# Altium schematic symbol library kmilo17pet-LT_ChargePump.SchLib: 599 symbols (part 13 of 29)
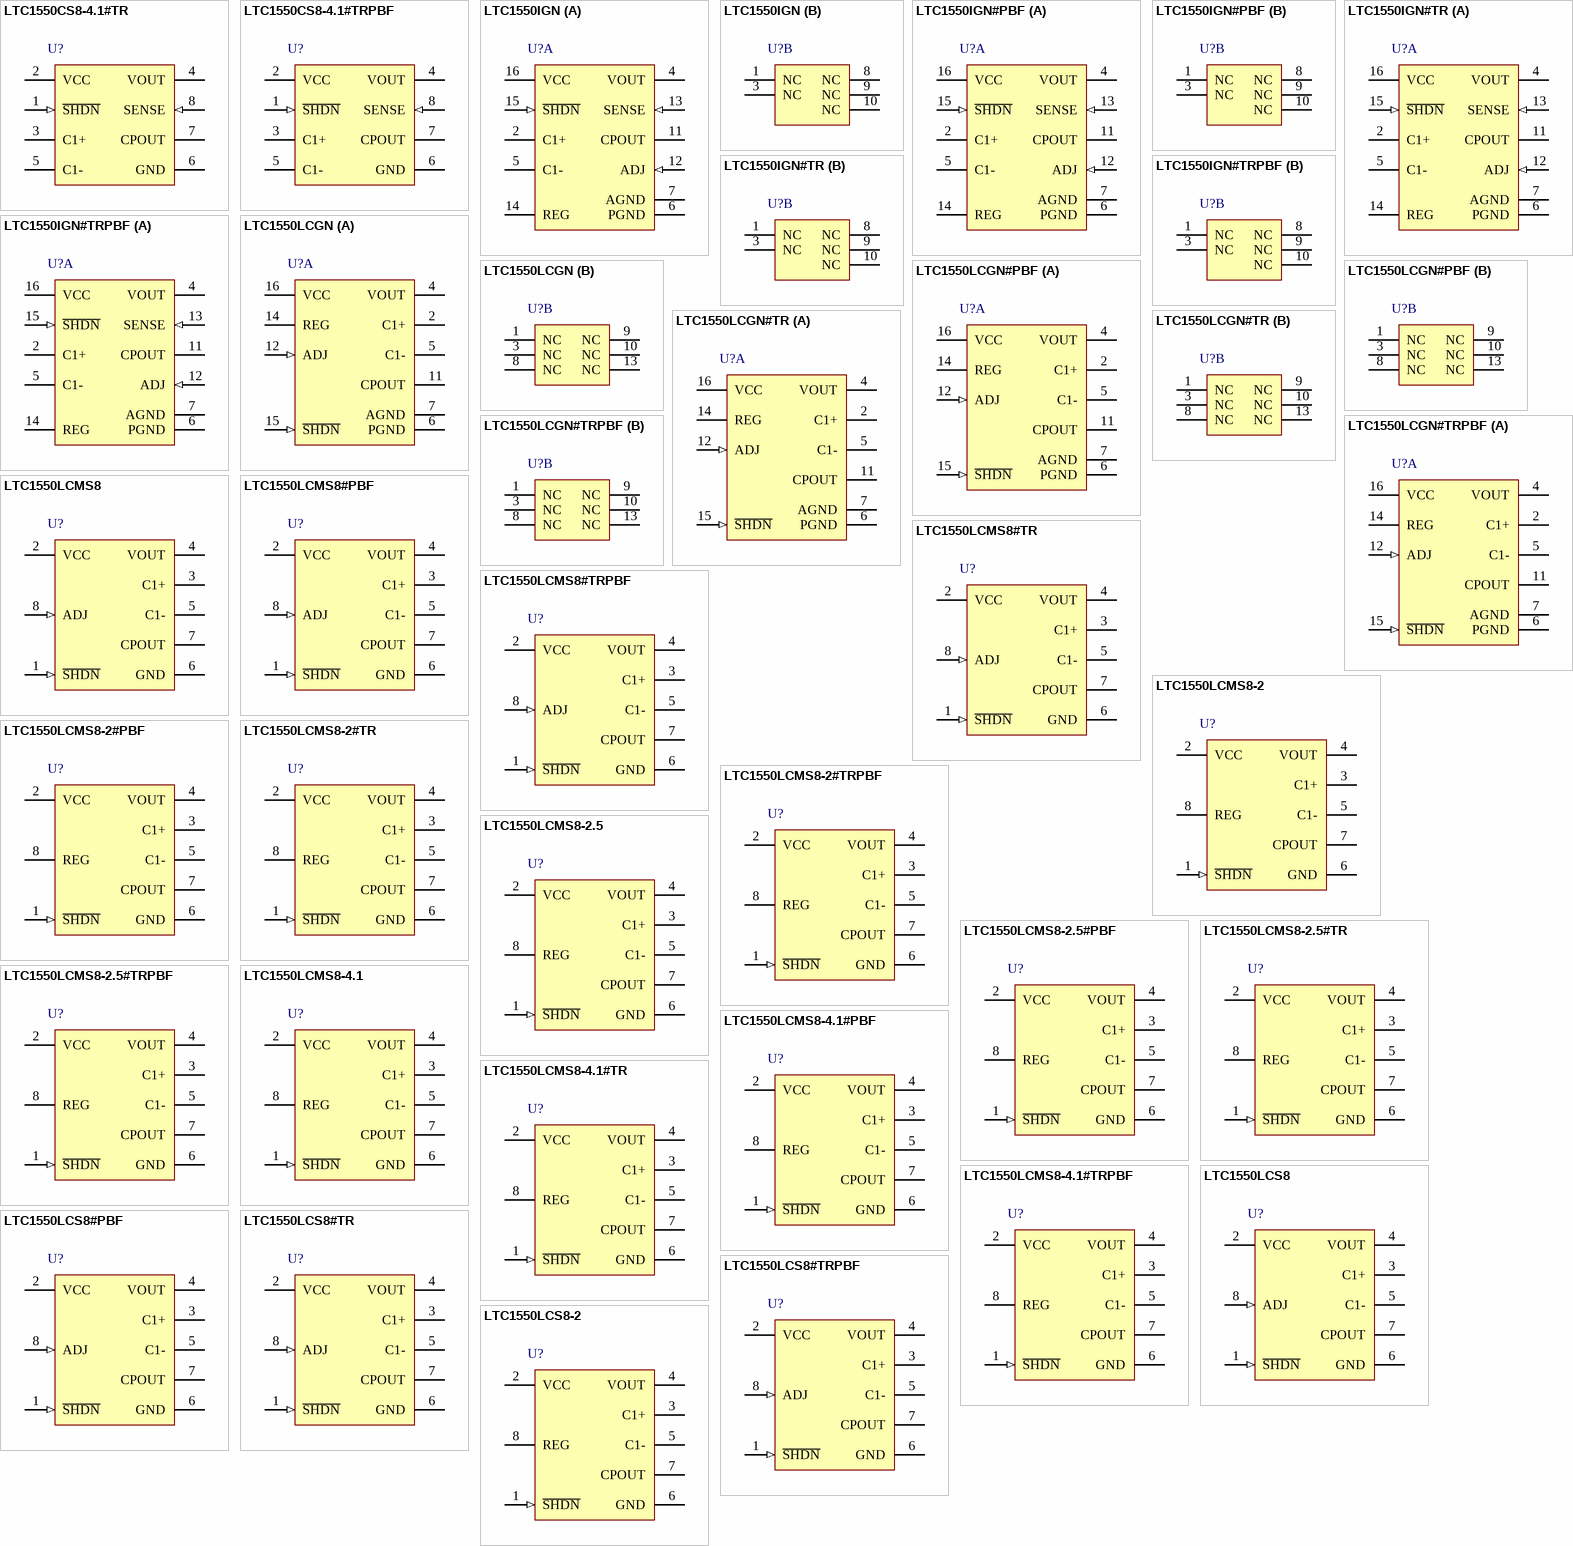
[diagram p28: symbols LTC1550CS8-4.1#TR to LTC1550LCS8-2]

## LTC1550LCMS8-4.1
designator U?
Low Noise, Switched Capacitor Regulated Voltage Inverter, 4.5 to 5.25 V Vin, -4.1 V Vout, 8-pin SOP (MS8-8), 0 to 70 degC; Manufacturer: Linear Technology; PartNumber: LTC1550LCMS8-4.1; Frequency(kHz): 900; Ishutdown(uA): 0.1; Isupply(mA): 3.65; Max Iout(mA): 20; Vin Max(V): 5.25; Vin Min(V): 4.5; Voutput: -4.1V; PackageVersion: Rev. G, 03/2012; PackageReference: MS8-8; PackageDescription: 8-Pin Plastic MSOP, Body 3 x 3 mm, Pitch 0.65 mm; Supplier 1: Digi-Key; Supplier Part Number 1: LTC1550LCMS8-4.1-ND; RoHS: FALSE; Mounting Technology: Surface Mount; ComponentLink1Description: Manufacturer URL; ComponentLink1URL: http://www.linear.com/; ComponentLink2Description: Datasheet; ComponentLink2URL: http://cds.linear.com/docs/en/datasheet/15501lf.pdf; ComponentLink3Description: Package Specification; ComponentLink3URL: http://cds.linear.com/docs/en/packaging/05081660_G_MS8.pdf
footprint LT-MS8-8_N (SOP, 8-Leads, Body 3.1x3.1mm, Pitch 0.65mm, IPC Medium Density)
footprint LT-MS8-8_L (SOP, 8-Leads, Body 3.1x3.1mm, Pitch 0.65mm, IPC High Density)
footprint LT-MS8-8_M (SOP, 8-Leads, Body 3.1x3.1mm, Pitch 0.65mm, IPC Low Density)
pins: 1 ~{SHDN} (in) "Shutdown (TTL Compatible). This pin is active low (S\H\D\N\) for the LTC1550L and active high (SHDN) for the LTC1551L. When this pin is at VCC (GND for LTC1551L), the LTC1550L operates normally. When S\H\D\N\ is pulled low (See Datasheet)", 2 VCC (power) "Power Supply. VCC requires an input voltage between 2.7V and 5.25V. Certain combinations of output voltage and output load current may place additional restrictions on the required input voltage. Consult the Electrical (See Datasheet)", 3 C1+ "C1 Positive Input. Connect a 0.1uF capacitor between C1+ and C1-.", 4 VOUT (power) "Negative Voltage Output. This pin must be bypassed with a 4.7uF or larger capacitor to ensure regulator loop stability. LTC recommends at least 10uFto achieve the specified output ripple. The output capacitor should be a (See Datasheet)", 5 C1- "C1 Negative Input. Connect a 0.1uF capacitor from C1+ to C1-.", 6 GND (power) "Ground. Connect to a low impedance ground. A ground plane will help minimize regulation errors.", 7 CPOUT "Negative Charge Pump Output. This pin requires a 0.1uF storage capacitor to ground. In order to achieve ripple on the output voltage of less than 1mV, the ground connection for the CPOUT capacitor must tie directly to the (See Datasheet)", 8 REG (oc) "This is an open-drain output that pulls low when the output voltage is within 5% of the set value. It will sink 4uA to ground with a 5V supply. The external circuitry must provide a pull-up or REG will not swing high. The (See Datasheet)"

## LTC1550LCMS8-4.1#PBF
designator U?
Low Noise, Switched Capacitor Regulated Voltage Inverter, 4.5 to 5.25 V Vin, -4.1 V Vout, 8-pin SOP (MS8-8), 0 to 70 degC, Pb-Free; Manufacturer: Linear Technology; PartNumber: LTC1550LCMS8-4.1#PBF; Frequency(kHz): 900; Ishutdown(uA): 0.1; Isupply(mA): 3.65; Max Iout(mA): 20; Vin Max(V): 5.25; Vin Min(V): 4.5; Voutput: -4.1V; PackageVersion: Rev. G, 03/2012; PackageReference: MS8-8; PackageDescription: 8-Pin Plastic MSOP, Body 3 x 3 mm, Pitch 0.65 mm; Supplier 1: Digi-Key; Supplier Part Number 1: LTC1550LCMS8-4.1#PBF-ND; Supplier 2: Newark; Supplier Part Number 2: 56M1986; RoHS: TRUE; Mounting Technology: Surface Mount; ComponentLink1Description: Manufacturer URL; ComponentLink1URL: http://www.linear.com/; ComponentLink2Description: Datasheet; ComponentLink2URL: http://cds.linear.com/docs/en/datasheet/15501lf.pdf; ComponentLink3Description: Package Specification; ComponentLink3URL: http://cds.linear.com/docs/en/packaging/05081660_G_MS8.pdf
footprint LT-MS8-8_N (SOP, 8-Leads, Body 3.1x3.1mm, Pitch 0.65mm, IPC Medium Density)
footprint LT-MS8-8_L (SOP, 8-Leads, Body 3.1x3.1mm, Pitch 0.65mm, IPC High Density)
footprint LT-MS8-8_M (SOP, 8-Leads, Body 3.1x3.1mm, Pitch 0.65mm, IPC Low Density)
pins: 1 ~{SHDN} (in) "Shutdown (TTL Compatible). This pin is active low (S\H\D\N\) for the LTC1550L and active high (SHDN) for the LTC1551L. When this pin is at VCC (GND for LTC1551L), the LTC1550L operates normally. When S\H\D\N\ is pulled low (See Datasheet)", 2 VCC (power) "Power Supply. VCC requires an input voltage between 2.7V and 5.25V. Certain combinations of output voltage and output load current may place additional restrictions on the required input voltage. Consult the Electrical (See Datasheet)", 3 C1+ "C1 Positive Input. Connect a 0.1uF capacitor between C1+ and C1-.", 4 VOUT (power) "Negative Voltage Output. This pin must be bypassed with a 4.7uF or larger capacitor to ensure regulator loop stability. LTC recommends at least 10uFto achieve the specified output ripple. The output capacitor should be a (See Datasheet)", 5 C1- "C1 Negative Input. Connect a 0.1uF capacitor from C1+ to C1-.", 6 GND (power) "Ground. Connect to a low impedance ground. A ground plane will help minimize regulation errors.", 7 CPOUT "Negative Charge Pump Output. This pin requires a 0.1uF storage capacitor to ground. In order to achieve ripple on the output voltage of less than 1mV, the ground connection for the CPOUT capacitor must tie directly to the (See Datasheet)", 8 REG (oc) "This is an open-drain output that pulls low when the output voltage is within 5% of the set value. It will sink 4uA to ground with a 5V supply. The external circuitry must provide a pull-up or REG will not swing high. The (See Datasheet)"

## LTC1550LCMS8-4.1#TR
designator U?
Low Noise, Switched Capacitor Regulated Voltage Inverter, 4.5 to 5.25 V Vin, -4.1 V Vout, 8-pin SOP (MS8-8), 0 to 70 degC, Tape and Reel; Manufacturer: Linear Technology; PartNumber: LTC1550LCMS8-4.1#TR; Frequency(kHz): 900; Ishutdown(uA): 0.1; Isupply(mA): 3.65; Max Iout(mA): 20; Vin Max(V): 5.25; Vin Min(V): 4.5; Voutput: -4.1V; PackageVersion: Rev. G, 03/2012; PackageReference: MS8-8; PackageDescription: 8-Pin Plastic MSOP, Body 3 x 3 mm, Pitch 0.65 mm; Supplier 1: Digi-Key; Supplier Part Number 1: LTC1550LCMS84.1TR-ND; Packing: Tape and Reel; RoHS: FALSE; Mounting Technology: Surface Mount; ComponentLink1Description: Manufacturer URL; ComponentLink1URL: http://www.linear.com/; ComponentLink2Description: Datasheet; ComponentLink2URL: http://cds.linear.com/docs/en/datasheet/15501lf.pdf; ComponentLink3Description: Package Specification; ComponentLink3URL: http://cds.linear.com/docs/en/packaging/05081660_G_MS8.pdf
footprint LT-MS8-8_N (SOP, 8-Leads, Body 3.1x3.1mm, Pitch 0.65mm, IPC Medium Density)
footprint LT-MS8-8_L (SOP, 8-Leads, Body 3.1x3.1mm, Pitch 0.65mm, IPC High Density)
footprint LT-MS8-8_M (SOP, 8-Leads, Body 3.1x3.1mm, Pitch 0.65mm, IPC Low Density)
pins: 1 ~{SHDN} (in) "Shutdown (TTL Compatible). This pin is active low (S\H\D\N\) for the LTC1550L and active high (SHDN) for the LTC1551L. When this pin is at VCC (GND for LTC1551L), the LTC1550L operates normally. When S\H\D\N\ is pulled low (See Datasheet)", 2 VCC (power) "Power Supply. VCC requires an input voltage between 2.7V and 5.25V. Certain combinations of output voltage and output load current may place additional restrictions on the required input voltage. Consult the Electrical (See Datasheet)", 3 C1+ "C1 Positive Input. Connect a 0.1uF capacitor between C1+ and C1-.", 4 VOUT (power) "Negative Voltage Output. This pin must be bypassed with a 4.7uF or larger capacitor to ensure regulator loop stability. LTC recommends at least 10uFto achieve the specified output ripple. The output capacitor should be a (See Datasheet)", 5 C1- "C1 Negative Input. Connect a 0.1uF capacitor from C1+ to C1-.", 6 GND (power) "Ground. Connect to a low impedance ground. A ground plane will help minimize regulation errors.", 7 CPOUT "Negative Charge Pump Output. This pin requires a 0.1uF storage capacitor to ground. In order to achieve ripple on the output voltage of less than 1mV, the ground connection for the CPOUT capacitor must tie directly to the (See Datasheet)", 8 REG (oc) "This is an open-drain output that pulls low when the output voltage is within 5% of the set value. It will sink 4uA to ground with a 5V supply. The external circuitry must provide a pull-up or REG will not swing high. The (See Datasheet)"

## LTC1550LCMS8-4.1#TRPBF
designator U?
Low Noise, Switched Capacitor Regulated Voltage Inverter, 4.5 to 5.25 V Vin, -4.1 V Vout, 8-pin SOP (MS8-8), 0 to 70 degC, Pb-Free, Tape and Reel; Manufacturer: Linear Technology; PartNumber: LTC1550LCMS8-4.1#TRPBF; Frequency(kHz): 900; Ishutdown(uA): 0.1; Isupply(mA): 3.65; Max Iout(mA): 20; Vin Max(V): 5.25; Vin Min(V): 4.5; Voutput: -4.1V; PackageVersion: Rev. G, 03/2012; PackageReference: MS8-8; PackageDescription: 8-Pin Plastic MSOP, Body 3 x 3 mm, Pitch 0.65 mm; Supplier 1: Digi-Key; Supplier Part Number 1: LTC1550LCMS8-4.1#TRPBF-ND; Packing: Tape and Reel; RoHS: TRUE; Mounting Technology: Surface Mount; ComponentLink1Description: Manufacturer URL; ComponentLink1URL: http://www.linear.com/; ComponentLink2Description: Datasheet; ComponentLink2URL: http://cds.linear.com/docs/en/datasheet/15501lf.pdf; ComponentLink3Description: Package Specification; ComponentLink3URL: http://cds.linear.com/docs/en/packaging/05081660_G_MS8.pdf
footprint LT-MS8-8_N (SOP, 8-Leads, Body 3.1x3.1mm, Pitch 0.65mm, IPC Medium Density)
footprint LT-MS8-8_L (SOP, 8-Leads, Body 3.1x3.1mm, Pitch 0.65mm, IPC High Density)
footprint LT-MS8-8_M (SOP, 8-Leads, Body 3.1x3.1mm, Pitch 0.65mm, IPC Low Density)
pins: 1 ~{SHDN} (in) "Shutdown (TTL Compatible). This pin is active low (S\H\D\N\) for the LTC1550L and active high (SHDN) for the LTC1551L. When this pin is at VCC (GND for LTC1551L), the LTC1550L operates normally. When S\H\D\N\ is pulled low (See Datasheet)", 2 VCC (power) "Power Supply. VCC requires an input voltage between 2.7V and 5.25V. Certain combinations of output voltage and output load current may place additional restrictions on the required input voltage. Consult the Electrical (See Datasheet)", 3 C1+ "C1 Positive Input. Connect a 0.1uF capacitor between C1+ and C1-.", 4 VOUT (power) "Negative Voltage Output. This pin must be bypassed with a 4.7uF or larger capacitor to ensure regulator loop stability. LTC recommends at least 10uFto achieve the specified output ripple. The output capacitor should be a (See Datasheet)", 5 C1- "C1 Negative Input. Connect a 0.1uF capacitor from C1+ to C1-.", 6 GND (power) "Ground. Connect to a low impedance ground. A ground plane will help minimize regulation errors.", 7 CPOUT "Negative Charge Pump Output. This pin requires a 0.1uF storage capacitor to ground. In order to achieve ripple on the output voltage of less than 1mV, the ground connection for the CPOUT capacitor must tie directly to the (See Datasheet)", 8 REG (oc) "This is an open-drain output that pulls low when the output voltage is within 5% of the set value. It will sink 4uA to ground with a 5V supply. The external circuitry must provide a pull-up or REG will not swing high. The (See Datasheet)"

## LTC1550LCS8
designator U?
Low Noise, Switched Capacitor Regulated Voltage Inverter, 2.7 to 5.25 V Vin, Adjustable Vout, 8-pin SOIC (S8-8), 0 to 70 degC; Manufacturer: Linear Technology; PartNumber: LTC1550LCS8; Frequency(kHz): 900; Ishutdown(uA): 0.1; Isupply(mA): 3.65; Max Iout(mA): 20; Vin Max(V): 5.25; Vin Min(V): 2.7; Voutput: Adj; PackageVersion: Rev. G, 03/2012; PackageReference: S8-8; PackageDescription: 8-Pin Plastic Small Outline (Narrow .150 Inch), Body 4.9 x 3.9 mm, Pitch 1.27 mm; Supplier 1: Digi-Key; Supplier Part Number 1: LTC1550LCS8-ND; RoHS: FALSE; Mounting Technology: Surface Mount; ComponentLink1Description: Manufacturer URL; ComponentLink1URL: http://www.linear.com/; ComponentLink2Description: Datasheet; ComponentLink2URL: http://cds.linear.com/docs/en/datasheet/15501lf.pdf; ComponentLink3Description: Package Specification; ComponentLink3URL: http://cds.linear.com/docs/en/packaging/05081610_G_SO8.pdf
footprint LT-S8-8_N (SOIC, 8-Leads, Body 5x4mm, Pitch 1.27mm, IPC Medium Density)
footprint LT-S8-8_L (SOIC, 8-Leads, Body 5x4mm, Pitch 1.27mm, IPC High Density)
footprint LT-S8-8_M (SOIC, 8-Leads, Body 5x4mm, Pitch 1.27mm, IPC Low Density)
pins: 1 ~{SHDN} (in) "Shutdown (TTL Compatible). This pin is active low (S\H\D\N\) for the LTC1550L and active high (SHDN) for the LTC1551L. When this pin is at VCC (GND for LTC1551L), the LTC1550L operates normally. When S\H\D\N\ is pulled low (See Datasheet)", 2 VCC (power) "Power Supply. VCC requires an input voltage between 2.7V and 5.25V. Certain combinations of output voltage and output load current may place additional restrictions on the required input voltage. Consult the Electrical (See Datasheet)", 3 C1+ "C1 Positive Input. Connect a 0.1uF capacitor between C1+ and C1-.", 4 VOUT (power) "Negative Voltage Output. This pin must be bypassed with a 4.7uF or larger capacitor to ensure regulator loop stability. LTC recommends at least 10uFto achieve the specified output ripple. The output capacitor should be a (See Datasheet)", 5 C1- "C1 Negative Input. Connect a 0.1uF capacitor from C1+ to C1-.", 6 GND (power) "Ground. Connect to a low impedance ground. A ground plane will help minimize regulation errors.", 7 CPOUT "Negative Charge Pump Output. This pin requires a 0.1uF storage capacitor to ground. In order to achieve ripple on the output voltage of less than 1mV, the ground connection for the CPOUT capacitor must tie directly to the (See Datasheet)", 8 ADJ (in) "This is the feedback point for the external resistor divider string. Connect a divider string from GND to VOUT with the divided tap connected to ADJ. Note that the resistor string needs to be connected “upside-down” f(See Datasheet)"

## LTC1550LCS8#PBF
designator U?
Low Noise, Switched Capacitor Regulated Voltage Inverter, 2.7 to 5.25 V Vin, Adjustable Vout, 8-pin SOIC (S8-8), 0 to 70 degC, Pb-Free; Manufacturer: Linear Technology; PartNumber: LTC1550LCS8#PBF; Frequency(kHz): 900; Ishutdown(uA): 0.1; Isupply(mA): 3.65; Max Iout(mA): 20; Vin Max(V): 5.25; Vin Min(V): 2.7; Voutput: Adj; PackageVersion: Rev. G, 03/2012; PackageReference: S8-8; PackageDescription: 8-Pin Plastic Small Outline (Narrow .150 Inch), Body 4.9 x 3.9 mm, Pitch 1.27 mm; Supplier 1: Digi-Key; Supplier Part Number 1: LTC1550LCS8#PBF-ND; RoHS: TRUE; Mounting Technology: Surface Mount; ComponentLink1Description: Manufacturer URL; ComponentLink1URL: http://www.linear.com/; ComponentLink2Description: Datasheet; ComponentLink2URL: http://cds.linear.com/docs/en/datasheet/15501lf.pdf; ComponentLink3Description: Package Specification; ComponentLink3URL: http://cds.linear.com/docs/en/packaging/05081610_G_SO8.pdf
footprint LT-S8-8_N (SOIC, 8-Leads, Body 5x4mm, Pitch 1.27mm, IPC Medium Density)
footprint LT-S8-8_L (SOIC, 8-Leads, Body 5x4mm, Pitch 1.27mm, IPC High Density)
footprint LT-S8-8_M (SOIC, 8-Leads, Body 5x4mm, Pitch 1.27mm, IPC Low Density)
pins: 1 ~{SHDN} (in) "Shutdown (TTL Compatible). This pin is active low (S\H\D\N\) for the LTC1550L and active high (SHDN) for the LTC1551L. When this pin is at VCC (GND for LTC1551L), the LTC1550L operates normally. When S\H\D\N\ is pulled low (See Datasheet)", 2 VCC (power) "Power Supply. VCC requires an input voltage between 2.7V and 5.25V. Certain combinations of output voltage and output load current may place additional restrictions on the required input voltage. Consult the Electrical (See Datasheet)", 3 C1+ "C1 Positive Input. Connect a 0.1uF capacitor between C1+ and C1-.", 4 VOUT (power) "Negative Voltage Output. This pin must be bypassed with a 4.7uF or larger capacitor to ensure regulator loop stability. LTC recommends at least 10uFto achieve the specified output ripple. The output capacitor should be a (See Datasheet)", 5 C1- "C1 Negative Input. Connect a 0.1uF capacitor from C1+ to C1-.", 6 GND (power) "Ground. Connect to a low impedance ground. A ground plane will help minimize regulation errors.", 7 CPOUT "Negative Charge Pump Output. This pin requires a 0.1uF storage capacitor to ground. In order to achieve ripple on the output voltage of less than 1mV, the ground connection for the CPOUT capacitor must tie directly to the (See Datasheet)", 8 ADJ (in) "This is the feedback point for the external resistor divider string. Connect a divider string from GND to VOUT with the divided tap connected to ADJ. Note that the resistor string needs to be connected “upside-down” f(See Datasheet)"

## LTC1550LCS8#TR
designator U?
Low Noise, Switched Capacitor Regulated Voltage Inverter, 2.7 to 5.25 V Vin, Adjustable Vout, 8-pin SOIC (S8-8), 0 to 70 degC, Tape and Reel; Manufacturer: Linear Technology; PartNumber: LTC1550LCS8#TR; Frequency(kHz): 900; Ishutdown(uA): 0.1; Isupply(mA): 3.65; Max Iout(mA): 20; Vin Max(V): 5.25; Vin Min(V): 2.7; Voutput: Adj; PackageVersion: Rev. G, 03/2012; PackageReference: S8-8; PackageDescription: 8-Pin Plastic Small Outline (Narrow .150 Inch), Body 4.9 x 3.9 mm, Pitch 1.27 mm; Supplier 1: Digi-Key; Supplier Part Number 1: LTC1550LCS8#TR-ND; Packing: Tape and Reel; RoHS: FALSE; Mounting Technology: Surface Mount; ComponentLink1Description: Manufacturer URL; ComponentLink1URL: http://www.linear.com/; ComponentLink2Description: Datasheet; ComponentLink2URL: http://cds.linear.com/docs/en/datasheet/15501lf.pdf; ComponentLink3Description: Package Specification; ComponentLink3URL: http://cds.linear.com/docs/en/packaging/05081610_G_SO8.pdf
footprint LT-S8-8_N (SOIC, 8-Leads, Body 5x4mm, Pitch 1.27mm, IPC Medium Density)
footprint LT-S8-8_L (SOIC, 8-Leads, Body 5x4mm, Pitch 1.27mm, IPC High Density)
footprint LT-S8-8_M (SOIC, 8-Leads, Body 5x4mm, Pitch 1.27mm, IPC Low Density)
pins: 1 ~{SHDN} (in) "Shutdown (TTL Compatible). This pin is active low (S\H\D\N\) for the LTC1550L and active high (SHDN) for the LTC1551L. When this pin is at VCC (GND for LTC1551L), the LTC1550L operates normally. When S\H\D\N\ is pulled low (See Datasheet)", 2 VCC (power) "Power Supply. VCC requires an input voltage between 2.7V and 5.25V. Certain combinations of output voltage and output load current may place additional restrictions on the required input voltage. Consult the Electrical (See Datasheet)", 3 C1+ "C1 Positive Input. Connect a 0.1uF capacitor between C1+ and C1-.", 4 VOUT (power) "Negative Voltage Output. This pin must be bypassed with a 4.7uF or larger capacitor to ensure regulator loop stability. LTC recommends at least 10uFto achieve the specified output ripple. The output capacitor should be a (See Datasheet)", 5 C1- "C1 Negative Input. Connect a 0.1uF capacitor from C1+ to C1-.", 6 GND (power) "Ground. Connect to a low impedance ground. A ground plane will help minimize regulation errors.", 7 CPOUT "Negative Charge Pump Output. This pin requires a 0.1uF storage capacitor to ground. In order to achieve ripple on the output voltage of less than 1mV, the ground connection for the CPOUT capacitor must tie directly to the (See Datasheet)", 8 ADJ (in) "This is the feedback point for the external resistor divider string. Connect a divider string from GND to VOUT with the divided tap connected to ADJ. Note that the resistor string needs to be connected “upside-down” f(See Datasheet)"

## LTC1550LCS8#TRPBF
designator U?
Low Noise, Switched Capacitor Regulated Voltage Inverter, 2.7 to 5.25 V Vin, Adjustable Vout, 8-pin SOIC (S8-8), 0 to 70 degC, Pb-Free, Tape and Reel; Manufacturer: Linear Technology; PartNumber: LTC1550LCS8#TRPBF; Frequency(kHz): 900; Ishutdown(uA): 0.1; Isupply(mA): 3.65; Max Iout(mA): 20; Vin Max(V): 5.25; Vin Min(V): 2.7; Voutput: Adj; PackageVersion: Rev. G, 03/2012; PackageReference: S8-8; PackageDescription: 8-Pin Plastic Small Outline (Narrow .150 Inch), Body 4.9 x 3.9 mm, Pitch 1.27 mm; Supplier 1: Digi-Key; Supplier Part Number 1: LTC1550LCS8#TRPBF-ND; Packing: Tape and Reel; RoHS: TRUE; Mounting Technology: Surface Mount; ComponentLink1Description: Manufacturer URL; ComponentLink1URL: http://www.linear.com/; ComponentLink2Description: Datasheet; ComponentLink2URL: http://cds.linear.com/docs/en/datasheet/15501lf.pdf; ComponentLink3Description: Package Specification; ComponentLink3URL: http://cds.linear.com/docs/en/packaging/05081610_G_SO8.pdf
footprint LT-S8-8_N (SOIC, 8-Leads, Body 5x4mm, Pitch 1.27mm, IPC Medium Density)
footprint LT-S8-8_L (SOIC, 8-Leads, Body 5x4mm, Pitch 1.27mm, IPC High Density)
footprint LT-S8-8_M (SOIC, 8-Leads, Body 5x4mm, Pitch 1.27mm, IPC Low Density)
pins: 1 ~{SHDN} (in) "Shutdown (TTL Compatible). This pin is active low (S\H\D\N\) for the LTC1550L and active high (SHDN) for the LTC1551L. When this pin is at VCC (GND for LTC1551L), the LTC1550L operates normally. When S\H\D\N\ is pulled low (See Datasheet)", 2 VCC (power) "Power Supply. VCC requires an input voltage between 2.7V and 5.25V. Certain combinations of output voltage and output load current may place additional restrictions on the required input voltage. Consult the Electrical (See Datasheet)", 3 C1+ "C1 Positive Input. Connect a 0.1uF capacitor between C1+ and C1-.", 4 VOUT (power) "Negative Voltage Output. This pin must be bypassed with a 4.7uF or larger capacitor to ensure regulator loop stability. LTC recommends at least 10uFto achieve the specified output ripple. The output capacitor should be a (See Datasheet)", 5 C1- "C1 Negative Input. Connect a 0.1uF capacitor from C1+ to C1-.", 6 GND (power) "Ground. Connect to a low impedance ground. A ground plane will help minimize regulation errors.", 7 CPOUT "Negative Charge Pump Output. This pin requires a 0.1uF storage capacitor to ground. In order to achieve ripple on the output voltage of less than 1mV, the ground connection for the CPOUT capacitor must tie directly to the (See Datasheet)", 8 ADJ (in) "This is the feedback point for the external resistor divider string. Connect a divider string from GND to VOUT with the divided tap connected to ADJ. Note that the resistor string needs to be connected “upside-down” f(See Datasheet)"

## LTC1550LCS8-2
designator U?
Low Noise, Switched Capacitor Regulated Voltage Inverter, 2.7 to 5.25 V Vin, -2 V Vout, 8-pin SOIC (S8-8), 0 to 70 degC; Manufacturer: Linear Technology; PartNumber: LTC1550LCS8-2; Frequency(kHz): 900; Ishutdown(uA): 0.1; Isupply(mA): 3.65; Max Iout(mA): 20; Vin Max(V): 5.25; Vin Min(V): 2.7; Voutput: -2V; PackageVersion: Rev. G, 03/2012; PackageReference: S8-8; PackageDescription: 8-Pin Plastic Small Outline (Narrow .150 Inch), Body 4.9 x 3.9 mm, Pitch 1.27 mm; Supplier 1: Digi-Key; Supplier Part Number 1: LTC1550LCS8-2-ND; RoHS: FALSE; Mounting Technology: Surface Mount; ComponentLink1Description: Manufacturer URL; ComponentLink1URL: http://www.linear.com/; ComponentLink2Description: Datasheet; ComponentLink2URL: http://cds.linear.com/docs/en/datasheet/15501lf.pdf; ComponentLink3Description: Package Specification; ComponentLink3URL: http://cds.linear.com/docs/en/packaging/05081610_G_SO8.pdf
footprint LT-S8-8_N (SOIC, 8-Leads, Body 5x4mm, Pitch 1.27mm, IPC Medium Density)
footprint LT-S8-8_L (SOIC, 8-Leads, Body 5x4mm, Pitch 1.27mm, IPC High Density)
footprint LT-S8-8_M (SOIC, 8-Leads, Body 5x4mm, Pitch 1.27mm, IPC Low Density)
pins: 1 ~{SHDN} (in) "Shutdown (TTL Compatible). This pin is active low (S\H\D\N\) for the LTC1550L and active high (SHDN) for the LTC1551L. When this pin is at VCC (GND for LTC1551L), the LTC1550L operates normally. When S\H\D\N\ is pulled low (See Datasheet)", 2 VCC (power) "Power Supply. VCC requires an input voltage between 2.7V and 5.25V. Certain combinations of output voltage and output load current may place additional restrictions on the required input voltage. Consult the Electrical (See Datasheet)", 3 C1+ "C1 Positive Input. Connect a 0.1uF capacitor between C1+ and C1-.", 4 VOUT (power) "Negative Voltage Output. This pin must be bypassed with a 4.7uF or larger capacitor to ensure regulator loop stability. LTC recommends at least 10uFto achieve the specified output ripple. The output capacitor should be a (See Datasheet)", 5 C1- "C1 Negative Input. Connect a 0.1uF capacitor from C1+ to C1-.", 6 GND (power) "Ground. Connect to a low impedance ground. A ground plane will help minimize regulation errors.", 7 CPOUT "Negative Charge Pump Output. This pin requires a 0.1uF storage capacitor to ground. In order to achieve ripple on the output voltage of less than 1mV, the ground connection for the CPOUT capacitor must tie directly to the (See Datasheet)", 8 REG (oc) "This is an open-drain output that pulls low when the output voltage is within 5% of the set value. It will sink 4uA to ground with a 5V supply. The external circuitry must provide a pull-up or REG will not swing high. The (See Datasheet)"

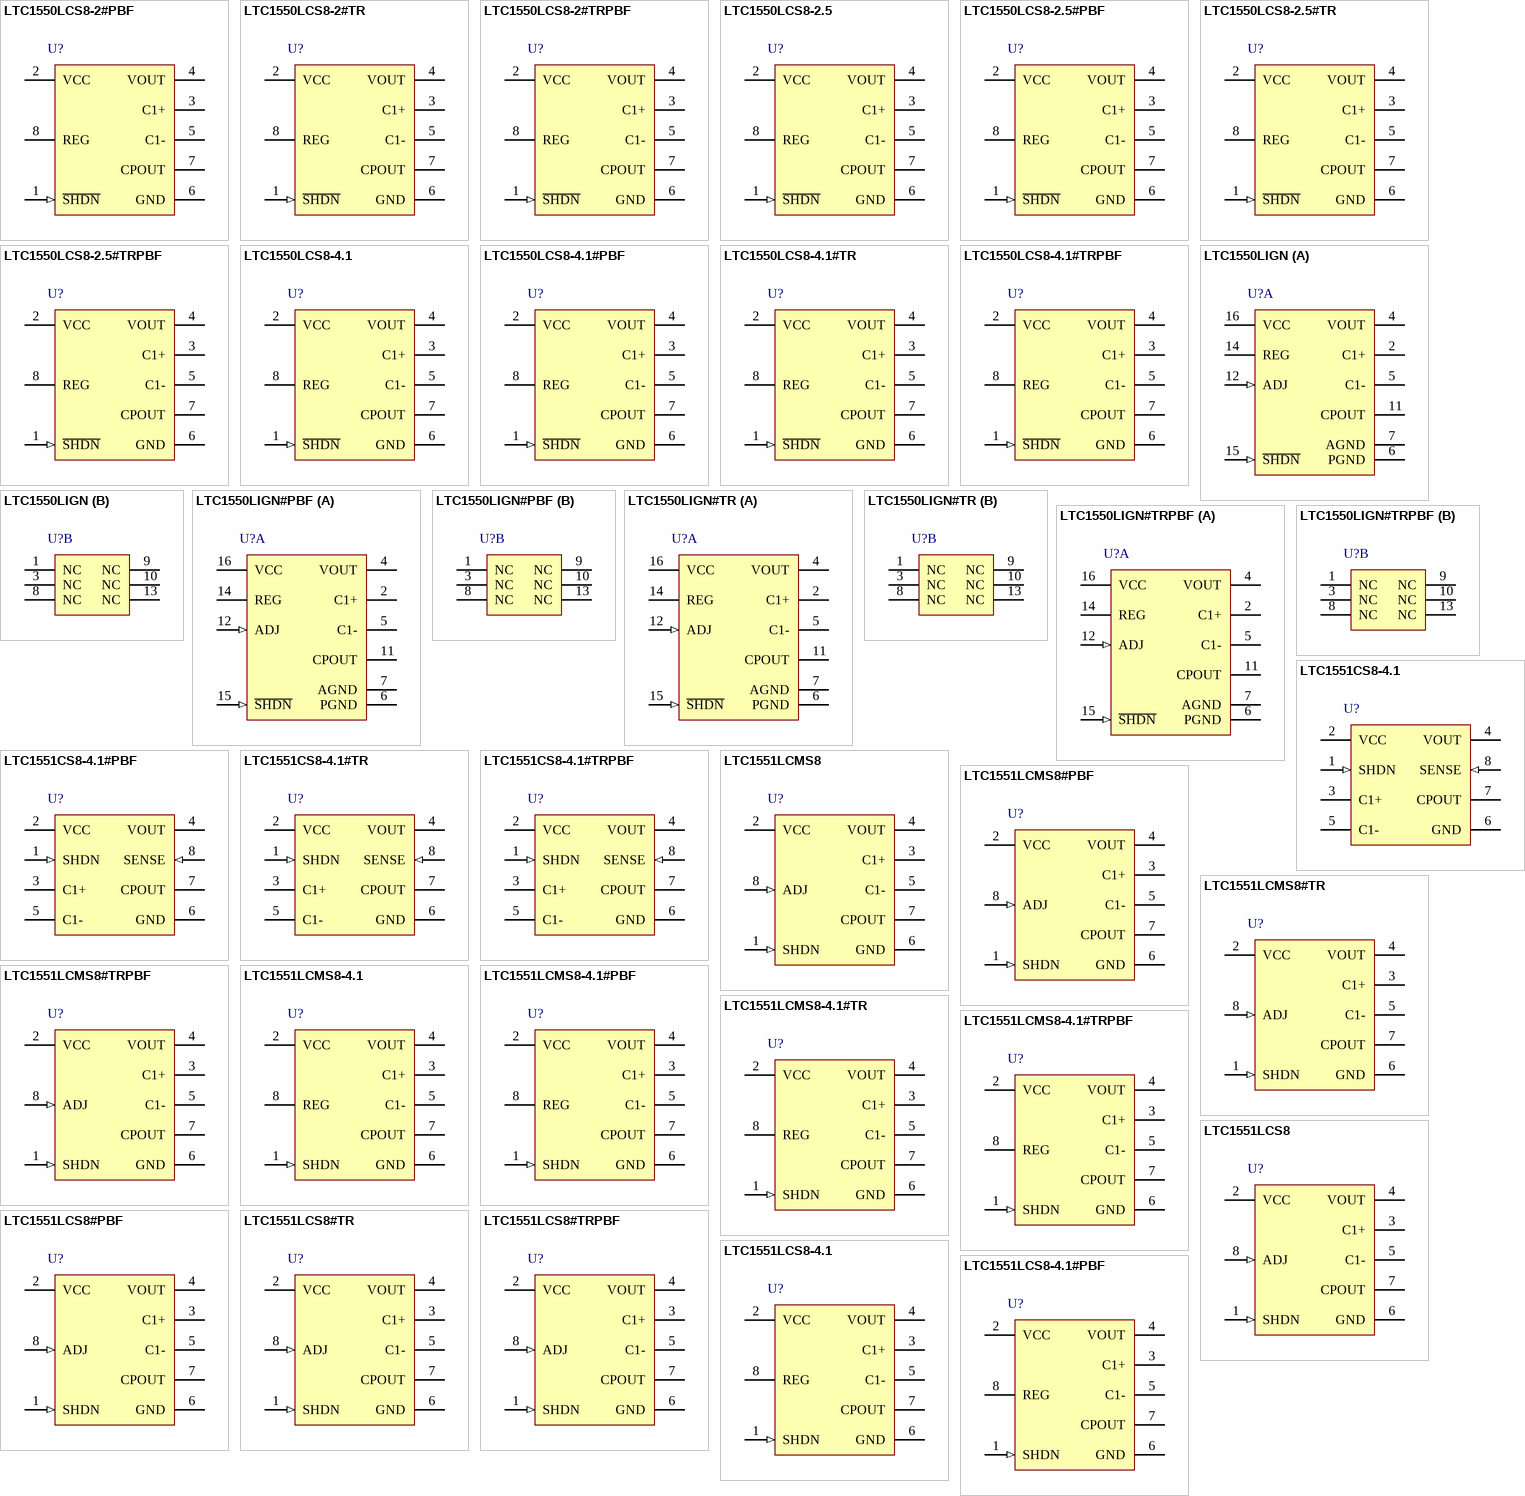
[diagram p8: symbols LTC1550LCS8-2#PBF to LTC1551LCS8-4.1#PBF]

## LTC1550LCS8-2#PBF
designator U?
Low Noise, Switched Capacitor Regulated Voltage Inverter, 2.7 to 5.25 V Vin, -2 V Vout, 8-pin SOIC (S8-8), 0 to 70 degC, Pb-Free; Manufacturer: Linear Technology; PartNumber: LTC1550LCS8-2#PBF; Frequency(kHz): 900; Ishutdown(uA): 0.1; Isupply(mA): 3.65; Max Iout(mA): 20; Vin Max(V): 5.25; Vin Min(V): 2.7; Voutput: -2V; PackageVersion: Rev. G, 03/2012; PackageReference: S8-8; PackageDescription: 8-Pin Plastic Small Outline (Narrow .150 Inch), Body 4.9 x 3.9 mm, Pitch 1.27 mm; Supplier 1: Digi-Key; Supplier Part Number 1: LTC1550LCS8-2#PBF-ND; RoHS: TRUE; Mounting Technology: Surface Mount; ComponentLink1Description: Manufacturer URL; ComponentLink1URL: http://www.linear.com/; ComponentLink2Description: Datasheet; ComponentLink2URL: http://cds.linear.com/docs/en/datasheet/15501lf.pdf; ComponentLink3Description: Package Specification; ComponentLink3URL: http://cds.linear.com/docs/en/packaging/05081610_G_SO8.pdf
footprint LT-S8-8_N (SOIC, 8-Leads, Body 5x4mm, Pitch 1.27mm, IPC Medium Density)
footprint LT-S8-8_L (SOIC, 8-Leads, Body 5x4mm, Pitch 1.27mm, IPC High Density)
footprint LT-S8-8_M (SOIC, 8-Leads, Body 5x4mm, Pitch 1.27mm, IPC Low Density)
pins: 1 ~{SHDN} (in) "Shutdown (TTL Compatible). This pin is active low (S\H\D\N\) for the LTC1550L and active high (SHDN) for the LTC1551L. When this pin is at VCC (GND for LTC1551L), the LTC1550L operates normally. When S\H\D\N\ is pulled low (See Datasheet)", 2 VCC (power) "Power Supply. VCC requires an input voltage between 2.7V and 5.25V. Certain combinations of output voltage and output load current may place additional restrictions on the required input voltage. Consult the Electrical (See Datasheet)", 3 C1+ "C1 Positive Input. Connect a 0.1uF capacitor between C1+ and C1-.", 4 VOUT (power) "Negative Voltage Output. This pin must be bypassed with a 4.7uF or larger capacitor to ensure regulator loop stability. LTC recommends at least 10uFto achieve the specified output ripple. The output capacitor should be a (See Datasheet)", 5 C1- "C1 Negative Input. Connect a 0.1uF capacitor from C1+ to C1-.", 6 GND (power) "Ground. Connect to a low impedance ground. A ground plane will help minimize regulation errors.", 7 CPOUT "Negative Charge Pump Output. This pin requires a 0.1uF storage capacitor to ground. In order to achieve ripple on the output voltage of less than 1mV, the ground connection for the CPOUT capacitor must tie directly to the (See Datasheet)", 8 REG (oc) "This is an open-drain output that pulls low when the output voltage is within 5% of the set value. It will sink 4uA to ground with a 5V supply. The external circuitry must provide a pull-up or REG will not swing high. The (See Datasheet)"

## LTC1550LCS8-2#TR
designator U?
Low Noise, Switched Capacitor Regulated Voltage Inverter, 2.7 to 5.25 V Vin, -2 V Vout, 8-pin SOIC (S8-8), 0 to 70 degC, Tape and Reel; Manufacturer: Linear Technology; PartNumber: LTC1550LCS8-2#TR; Frequency(kHz): 900; Ishutdown(uA): 0.1; Isupply(mA): 3.65; Max Iout(mA): 20; Vin Max(V): 5.25; Vin Min(V): 2.7; Voutput: -2V; PackageVersion: Rev. G, 03/2012; PackageReference: S8-8; PackageDescription: 8-Pin Plastic Small Outline (Narrow .150 Inch), Body 4.9 x 3.9 mm, Pitch 1.27 mm; Supplier 1: Digi-Key; Supplier Part Number 1: LTC1550LCS8-2#TR-ND; Packing: Tape and Reel; RoHS: FALSE; Mounting Technology: Surface Mount; ComponentLink1Description: Manufacturer URL; ComponentLink1URL: http://www.linear.com/; ComponentLink2Description: Datasheet; ComponentLink2URL: http://cds.linear.com/docs/en/datasheet/15501lf.pdf; ComponentLink3Description: Package Specification; ComponentLink3URL: http://cds.linear.com/docs/en/packaging/05081610_G_SO8.pdf
footprint LT-S8-8_N (SOIC, 8-Leads, Body 5x4mm, Pitch 1.27mm, IPC Medium Density)
footprint LT-S8-8_L (SOIC, 8-Leads, Body 5x4mm, Pitch 1.27mm, IPC High Density)
footprint LT-S8-8_M (SOIC, 8-Leads, Body 5x4mm, Pitch 1.27mm, IPC Low Density)
pins: 1 ~{SHDN} (in) "Shutdown (TTL Compatible). This pin is active low (S\H\D\N\) for the LTC1550L and active high (SHDN) for the LTC1551L. When this pin is at VCC (GND for LTC1551L), the LTC1550L operates normally. When S\H\D\N\ is pulled low (See Datasheet)", 2 VCC (power) "Power Supply. VCC requires an input voltage between 2.7V and 5.25V. Certain combinations of output voltage and output load current may place additional restrictions on the required input voltage. Consult the Electrical (See Datasheet)", 3 C1+ "C1 Positive Input. Connect a 0.1uF capacitor between C1+ and C1-.", 4 VOUT (power) "Negative Voltage Output. This pin must be bypassed with a 4.7uF or larger capacitor to ensure regulator loop stability. LTC recommends at least 10uFto achieve the specified output ripple. The output capacitor should be a (See Datasheet)", 5 C1- "C1 Negative Input. Connect a 0.1uF capacitor from C1+ to C1-.", 6 GND (power) "Ground. Connect to a low impedance ground. A ground plane will help minimize regulation errors.", 7 CPOUT "Negative Charge Pump Output. This pin requires a 0.1uF storage capacitor to ground. In order to achieve ripple on the output voltage of less than 1mV, the ground connection for the CPOUT capacitor must tie directly to the (See Datasheet)", 8 REG (oc) "This is an open-drain output that pulls low when the output voltage is within 5% of the set value. It will sink 4uA to ground with a 5V supply. The external circuitry must provide a pull-up or REG will not swing high. The (See Datasheet)"

## LTC1550LCS8-2#TRPBF
designator U?
Low Noise, Switched Capacitor Regulated Voltage Inverter, 2.7 to 5.25 V Vin, -2 V Vout, 8-pin SOIC (S8-8), 0 to 70 degC, Pb-Free, Tape and Reel; Manufacturer: Linear Technology; PartNumber: LTC1550LCS8-2#TRPBF; Frequency(kHz): 900; Ishutdown(uA): 0.1; Isupply(mA): 3.65; Max Iout(mA): 20; Vin Max(V): 5.25; Vin Min(V): 2.7; Voutput: -2V; PackageVersion: Rev. G, 03/2012; PackageReference: S8-8; PackageDescription: 8-Pin Plastic Small Outline (Narrow .150 Inch), Body 4.9 x 3.9 mm, Pitch 1.27 mm; Supplier 1: Digi-Key; Supplier Part Number 1: LTC1550LCS8-2#TRPBF-ND; Packing: Tape and Reel; RoHS: TRUE; Mounting Technology: Surface Mount; ComponentLink1Description: Manufacturer URL; ComponentLink1URL: http://www.linear.com/; ComponentLink2Description: Datasheet; ComponentLink2URL: http://cds.linear.com/docs/en/datasheet/15501lf.pdf; ComponentLink3Description: Package Specification; ComponentLink3URL: http://cds.linear.com/docs/en/packaging/05081610_G_SO8.pdf
footprint LT-S8-8_N (SOIC, 8-Leads, Body 5x4mm, Pitch 1.27mm, IPC Medium Density)
footprint LT-S8-8_L (SOIC, 8-Leads, Body 5x4mm, Pitch 1.27mm, IPC High Density)
footprint LT-S8-8_M (SOIC, 8-Leads, Body 5x4mm, Pitch 1.27mm, IPC Low Density)
pins: 1 ~{SHDN} (in) "Shutdown (TTL Compatible). This pin is active low (S\H\D\N\) for the LTC1550L and active high (SHDN) for the LTC1551L. When this pin is at VCC (GND for LTC1551L), the LTC1550L operates normally. When S\H\D\N\ is pulled low (See Datasheet)", 2 VCC (power) "Power Supply. VCC requires an input voltage between 2.7V and 5.25V. Certain combinations of output voltage and output load current may place additional restrictions on the required input voltage. Consult the Electrical (See Datasheet)", 3 C1+ "C1 Positive Input. Connect a 0.1uF capacitor between C1+ and C1-.", 4 VOUT (power) "Negative Voltage Output. This pin must be bypassed with a 4.7uF or larger capacitor to ensure regulator loop stability. LTC recommends at least 10uFto achieve the specified output ripple. The output capacitor should be a (See Datasheet)", 5 C1- "C1 Negative Input. Connect a 0.1uF capacitor from C1+ to C1-.", 6 GND (power) "Ground. Connect to a low impedance ground. A ground plane will help minimize regulation errors.", 7 CPOUT "Negative Charge Pump Output. This pin requires a 0.1uF storage capacitor to ground. In order to achieve ripple on the output voltage of less than 1mV, the ground connection for the CPOUT capacitor must tie directly to the (See Datasheet)", 8 REG (oc) "This is an open-drain output that pulls low when the output voltage is within 5% of the set value. It will sink 4uA to ground with a 5V supply. The external circuitry must provide a pull-up or REG will not swing high. The (See Datasheet)"

## LTC1550LCS8-2.5
designator U?
Low Noise, Switched Capacitor Regulated Voltage Inverter, 3.05 to 5.25 V Vin, -2.5 V Vout, 8-pin SOIC (S8-8), 0 to 70 degC; Manufacturer: Linear Technology; PartNumber: LTC1550LCS8-2.5; Frequency(kHz): 900; Ishutdown(uA): 0.1; Isupply(mA): 3.65; Max Iout(mA): 20; Vin Max(V): 5.25; Vin Min(V): 3.05; Voutput: -2.5V; PackageVersion: Rev. G, 03/2012; PackageReference: S8-8; PackageDescription: 8-Pin Plastic Small Outline (Narrow .150 Inch), Body 4.9 x 3.9 mm, Pitch 1.27 mm; Supplier 1: Digi-Key; Supplier Part Number 1: LTC1550LCS8-2.5-ND; RoHS: FALSE; Mounting Technology: Surface Mount; ComponentLink1Description: Manufacturer URL; ComponentLink1URL: http://www.linear.com/; ComponentLink2Description: Datasheet; ComponentLink2URL: http://cds.linear.com/docs/en/datasheet/15501lf.pdf; ComponentLink3Description: Package Specification; ComponentLink3URL: http://cds.linear.com/docs/en/packaging/05081610_G_SO8.pdf
footprint LT-S8-8_N (SOIC, 8-Leads, Body 5x4mm, Pitch 1.27mm, IPC Medium Density)
footprint LT-S8-8_L (SOIC, 8-Leads, Body 5x4mm, Pitch 1.27mm, IPC High Density)
footprint LT-S8-8_M (SOIC, 8-Leads, Body 5x4mm, Pitch 1.27mm, IPC Low Density)
pins: 1 ~{SHDN} (in) "Shutdown (TTL Compatible). This pin is active low (S\H\D\N\) for the LTC1550L and active high (SHDN) for the LTC1551L. When this pin is at VCC (GND for LTC1551L), the LTC1550L operates normally. When S\H\D\N\ is pulled low (See Datasheet)", 2 VCC (power) "Power Supply. VCC requires an input voltage between 2.7V and 5.25V. Certain combinations of output voltage and output load current may place additional restrictions on the required input voltage. Consult the Electrical (See Datasheet)", 3 C1+ "C1 Positive Input. Connect a 0.1uF capacitor between C1+ and C1-.", 4 VOUT (power) "Negative Voltage Output. This pin must be bypassed with a 4.7uF or larger capacitor to ensure regulator loop stability. LTC recommends at least 10uFto achieve the specified output ripple. The output capacitor should be a (See Datasheet)", 5 C1- "C1 Negative Input. Connect a 0.1uF capacitor from C1+ to C1-.", 6 GND (power) "Ground. Connect to a low impedance ground. A ground plane will help minimize regulation errors.", 7 CPOUT "Negative Charge Pump Output. This pin requires a 0.1uF storage capacitor to ground. In order to achieve ripple on the output voltage of less than 1mV, the ground connection for the CPOUT capacitor must tie directly to the (See Datasheet)", 8 REG (oc) "This is an open-drain output that pulls low when the output voltage is within 5% of the set value. It will sink 4uA to ground with a 5V supply. The external circuitry must provide a pull-up or REG will not swing high. The (See Datasheet)"

## LTC1550LCS8-2.5#PBF
designator U?
Low Noise, Switched Capacitor Regulated Voltage Inverter, 3.05 to 5.25 V Vin, -2.5 V Vout, 8-pin SOIC (S8-8), 0 to 70 degC, Pb-Free; Manufacturer: Linear Technology; PartNumber: LTC1550LCS8-2.5#PBF; Frequency(kHz): 900; Ishutdown(uA): 0.1; Isupply(mA): 3.65; Max Iout(mA): 20; Vin Max(V): 5.25; Vin Min(V): 3.05; Voutput: -2.5V; PackageVersion: Rev. G, 03/2012; PackageReference: S8-8; PackageDescription: 8-Pin Plastic Small Outline (Narrow .150 Inch), Body 4.9 x 3.9 mm, Pitch 1.27 mm; Supplier 1: Digi-Key; Supplier Part Number 1: LTC1550LCS8-2.5#PBF-ND; RoHS: TRUE; Mounting Technology: Surface Mount; ComponentLink1Description: Manufacturer URL; ComponentLink1URL: http://www.linear.com/; ComponentLink2Description: Datasheet; ComponentLink2URL: http://cds.linear.com/docs/en/datasheet/15501lf.pdf; ComponentLink3Description: Package Specification; ComponentLink3URL: http://cds.linear.com/docs/en/packaging/05081610_G_SO8.pdf
footprint LT-S8-8_N (SOIC, 8-Leads, Body 5x4mm, Pitch 1.27mm, IPC Medium Density)
footprint LT-S8-8_L (SOIC, 8-Leads, Body 5x4mm, Pitch 1.27mm, IPC High Density)
footprint LT-S8-8_M (SOIC, 8-Leads, Body 5x4mm, Pitch 1.27mm, IPC Low Density)
pins: 1 ~{SHDN} (in) "Shutdown (TTL Compatible). This pin is active low (S\H\D\N\) for the LTC1550L and active high (SHDN) for the LTC1551L. When this pin is at VCC (GND for LTC1551L), the LTC1550L operates normally. When S\H\D\N\ is pulled low (See Datasheet)", 2 VCC (power) "Power Supply. VCC requires an input voltage between 2.7V and 5.25V. Certain combinations of output voltage and output load current may place additional restrictions on the required input voltage. Consult the Electrical (See Datasheet)", 3 C1+ "C1 Positive Input. Connect a 0.1uF capacitor between C1+ and C1-.", 4 VOUT (power) "Negative Voltage Output. This pin must be bypassed with a 4.7uF or larger capacitor to ensure regulator loop stability. LTC recommends at least 10uFto achieve the specified output ripple. The output capacitor should be a (See Datasheet)", 5 C1- "C1 Negative Input. Connect a 0.1uF capacitor from C1+ to C1-.", 6 GND (power) "Ground. Connect to a low impedance ground. A ground plane will help minimize regulation errors.", 7 CPOUT "Negative Charge Pump Output. This pin requires a 0.1uF storage capacitor to ground. In order to achieve ripple on the output voltage of less than 1mV, the ground connection for the CPOUT capacitor must tie directly to the (See Datasheet)", 8 REG (oc) "This is an open-drain output that pulls low when the output voltage is within 5% of the set value. It will sink 4uA to ground with a 5V supply. The external circuitry must provide a pull-up or REG will not swing high. The (See Datasheet)"

## LTC1550LCS8-2.5#TR
designator U?
Low Noise, Switched Capacitor Regulated Voltage Inverter, 3.05 to 5.25 V Vin, -2.5 V Vout, 8-pin SOIC (S8-8), 0 to 70 degC, Tape and Reel; Manufacturer: Linear Technology; PartNumber: LTC1550LCS8-2.5#TR; Frequency(kHz): 900; Ishutdown(uA): 0.1; Isupply(mA): 3.65; Max Iout(mA): 20; Vin Max(V): 5.25; Vin Min(V): 3.05; Voutput: -2.5V; PackageVersion: Rev. G, 03/2012; PackageReference: S8-8; PackageDescription: 8-Pin Plastic Small Outline (Narrow .150 Inch), Body 4.9 x 3.9 mm, Pitch 1.27 mm; Supplier 1: Digi-Key; Supplier Part Number 1: LTC1550LCS8-2.5TR-ND; Packing: Tape and Reel; RoHS: FALSE; Mounting Technology: Surface Mount; ComponentLink1Description: Manufacturer URL; ComponentLink1URL: http://www.linear.com/; ComponentLink2Description: Datasheet; ComponentLink2URL: http://cds.linear.com/docs/en/datasheet/15501lf.pdf; ComponentLink3Description: Package Specification; ComponentLink3URL: http://cds.linear.com/docs/en/packaging/05081610_G_SO8.pdf
footprint LT-S8-8_N (SOIC, 8-Leads, Body 5x4mm, Pitch 1.27mm, IPC Medium Density)
footprint LT-S8-8_L (SOIC, 8-Leads, Body 5x4mm, Pitch 1.27mm, IPC High Density)
footprint LT-S8-8_M (SOIC, 8-Leads, Body 5x4mm, Pitch 1.27mm, IPC Low Density)
pins: 1 ~{SHDN} (in) "Shutdown (TTL Compatible). This pin is active low (S\H\D\N\) for the LTC1550L and active high (SHDN) for the LTC1551L. When this pin is at VCC (GND for LTC1551L), the LTC1550L operates normally. When S\H\D\N\ is pulled low (See Datasheet)", 2 VCC (power) "Power Supply. VCC requires an input voltage between 2.7V and 5.25V. Certain combinations of output voltage and output load current may place additional restrictions on the required input voltage. Consult the Electrical (See Datasheet)", 3 C1+ "C1 Positive Input. Connect a 0.1uF capacitor between C1+ and C1-.", 4 VOUT (power) "Negative Voltage Output. This pin must be bypassed with a 4.7uF or larger capacitor to ensure regulator loop stability. LTC recommends at least 10uFto achieve the specified output ripple. The output capacitor should be a (See Datasheet)", 5 C1- "C1 Negative Input. Connect a 0.1uF capacitor from C1+ to C1-.", 6 GND (power) "Ground. Connect to a low impedance ground. A ground plane will help minimize regulation errors.", 7 CPOUT "Negative Charge Pump Output. This pin requires a 0.1uF storage capacitor to ground. In order to achieve ripple on the output voltage of less than 1mV, the ground connection for the CPOUT capacitor must tie directly to the (See Datasheet)", 8 REG (oc) "This is an open-drain output that pulls low when the output voltage is within 5% of the set value. It will sink 4uA to ground with a 5V supply. The external circuitry must provide a pull-up or REG will not swing high. The (See Datasheet)"

## LTC1550LCS8-2.5#TRPBF
designator U?
Low Noise, Switched Capacitor Regulated Voltage Inverter, 3.05 to 5.25 V Vin, -2.5 V Vout, 8-pin SOIC (S8-8), 0 to 70 degC, Pb-Free, Tape and Reel; Manufacturer: Linear Technology; PartNumber: LTC1550LCS8-2.5#TRPBF; Frequency(kHz): 900; Ishutdown(uA): 0.1; Isupply(mA): 3.65; Max Iout(mA): 20; Vin Max(V): 5.25; Vin Min(V): 3.05; Voutput: -2.5V; PackageVersion: Rev. G, 03/2012; PackageReference: S8-8; PackageDescription: 8-Pin Plastic Small Outline (Narrow .150 Inch), Body 4.9 x 3.9 mm, Pitch 1.27 mm; Supplier 1: Digi-Key; Supplier Part Number 1: LTC1550LCS8-2.5#TRPBF-ND; Packing: Tape and Reel; RoHS: TRUE; Mounting Technology: Surface Mount; ComponentLink1Description: Manufacturer URL; ComponentLink1URL: http://www.linear.com/; ComponentLink2Description: Datasheet; ComponentLink2URL: http://cds.linear.com/docs/en/datasheet/15501lf.pdf; ComponentLink3Description: Package Specification; ComponentLink3URL: http://cds.linear.com/docs/en/packaging/05081610_G_SO8.pdf
footprint LT-S8-8_N (SOIC, 8-Leads, Body 5x4mm, Pitch 1.27mm, IPC Medium Density)
footprint LT-S8-8_L (SOIC, 8-Leads, Body 5x4mm, Pitch 1.27mm, IPC High Density)
footprint LT-S8-8_M (SOIC, 8-Leads, Body 5x4mm, Pitch 1.27mm, IPC Low Density)
pins: 1 ~{SHDN} (in) "Shutdown (TTL Compatible). This pin is active low (S\H\D\N\) for the LTC1550L and active high (SHDN) for the LTC1551L. When this pin is at VCC (GND for LTC1551L), the LTC1550L operates normally. When S\H\D\N\ is pulled low (See Datasheet)", 2 VCC (power) "Power Supply. VCC requires an input voltage between 2.7V and 5.25V. Certain combinations of output voltage and output load current may place additional restrictions on the required input voltage. Consult the Electrical (See Datasheet)", 3 C1+ "C1 Positive Input. Connect a 0.1uF capacitor between C1+ and C1-.", 4 VOUT (power) "Negative Voltage Output. This pin must be bypassed with a 4.7uF or larger capacitor to ensure regulator loop stability. LTC recommends at least 10uFto achieve the specified output ripple. The output capacitor should be a (See Datasheet)", 5 C1- "C1 Negative Input. Connect a 0.1uF capacitor from C1+ to C1-.", 6 GND (power) "Ground. Connect to a low impedance ground. A ground plane will help minimize regulation errors.", 7 CPOUT "Negative Charge Pump Output. This pin requires a 0.1uF storage capacitor to ground. In order to achieve ripple on the output voltage of less than 1mV, the ground connection for the CPOUT capacitor must tie directly to the (See Datasheet)", 8 REG (oc) "This is an open-drain output that pulls low when the output voltage is within 5% of the set value. It will sink 4uA to ground with a 5V supply. The external circuitry must provide a pull-up or REG will not swing high. The (See Datasheet)"

## LTC1550LCS8-4.1
designator U?
Low Noise, Switched Capacitor Regulated Voltage Inverter, 4.5 to 5.25 V Vin, -4.1 V Vout, 8-pin SOIC (S8-8), 0 to 70 degC; Manufacturer: Linear Technology; PartNumber: LTC1550LCS8-4.1; Frequency(kHz): 900; Ishutdown(uA): 0.1; Isupply(mA): 3.65; Max Iout(mA): 20; Vin Max(V): 5.25; Vin Min(V): 4.5; Voutput: -4.1V; PackageVersion: Rev. G, 03/2012; PackageReference: S8-8; PackageDescription: 8-Pin Plastic Small Outline (Narrow .150 Inch), Body 4.9 x 3.9 mm, Pitch 1.27 mm; Supplier 1: Digi-Key; Supplier Part Number 1: LTC1550LCS8-4.1-ND; RoHS: FALSE; Mounting Technology: Surface Mount; ComponentLink1Description: Manufacturer URL; ComponentLink1URL: http://www.linear.com/; ComponentLink2Description: Datasheet; ComponentLink2URL: http://cds.linear.com/docs/en/datasheet/15501lf.pdf; ComponentLink3Description: Package Specification; ComponentLink3URL: http://cds.linear.com/docs/en/packaging/05081610_G_SO8.pdf
footprint LT-S8-8_N (SOIC, 8-Leads, Body 5x4mm, Pitch 1.27mm, IPC Medium Density)
footprint LT-S8-8_L (SOIC, 8-Leads, Body 5x4mm, Pitch 1.27mm, IPC High Density)
footprint LT-S8-8_M (SOIC, 8-Leads, Body 5x4mm, Pitch 1.27mm, IPC Low Density)
pins: 1 ~{SHDN} (in) "Shutdown (TTL Compatible). This pin is active low (S\H\D\N\) for the LTC1550L and active high (SHDN) for the LTC1551L. When this pin is at VCC (GND for LTC1551L), the LTC1550L operates normally. When S\H\D\N\ is pulled low (See Datasheet)", 2 VCC (power) "Power Supply. VCC requires an input voltage between 2.7V and 5.25V. Certain combinations of output voltage and output load current may place additional restrictions on the required input voltage. Consult the Electrical (See Datasheet)", 3 C1+ "C1 Positive Input. Connect a 0.1uF capacitor between C1+ and C1-.", 4 VOUT (power) "Negative Voltage Output. This pin must be bypassed with a 4.7uF or larger capacitor to ensure regulator loop stability. LTC recommends at least 10uFto achieve the specified output ripple. The output capacitor should be a (See Datasheet)", 5 C1- "C1 Negative Input. Connect a 0.1uF capacitor from C1+ to C1-.", 6 GND (power) "Ground. Connect to a low impedance ground. A ground plane will help minimize regulation errors.", 7 CPOUT "Negative Charge Pump Output. This pin requires a 0.1uF storage capacitor to ground. In order to achieve ripple on the output voltage of less than 1mV, the ground connection for the CPOUT capacitor must tie directly to the (See Datasheet)", 8 REG (oc) "This is an open-drain output that pulls low when the output voltage is within 5% of the set value. It will sink 4uA to ground with a 5V supply. The external circuitry must provide a pull-up or REG will not swing high. The (See Datasheet)"

## LTC1550LCS8-4.1#PBF
designator U?
Low Noise, Switched Capacitor Regulated Voltage Inverter, 4.5 to 5.25 V Vin, -4.1 V Vout, 8-pin SOIC (S8-8), 0 to 70 degC, Pb-Free; Manufacturer: Linear Technology; PartNumber: LTC1550LCS8-4.1#PBF; Frequency(kHz): 900; Ishutdown(uA): 0.1; Isupply(mA): 3.65; Max Iout(mA): 20; Vin Max(V): 5.25; Vin Min(V): 4.5; Voutput: -4.1V; PackageVersion: Rev. G, 03/2012; PackageReference: S8-8; PackageDescription: 8-Pin Plastic Small Outline (Narrow .150 Inch), Body 4.9 x 3.9 mm, Pitch 1.27 mm; Supplier 1: Digi-Key; Supplier Part Number 1: LTC1550LCS8-4.1#PBF-ND; RoHS: TRUE; Mounting Technology: Surface Mount; ComponentLink1Description: Manufacturer URL; ComponentLink1URL: http://www.linear.com/; ComponentLink2Description: Datasheet; ComponentLink2URL: http://cds.linear.com/docs/en/datasheet/15501lf.pdf; ComponentLink3Description: Package Specification; ComponentLink3URL: http://cds.linear.com/docs/en/packaging/05081610_G_SO8.pdf
footprint LT-S8-8_N (SOIC, 8-Leads, Body 5x4mm, Pitch 1.27mm, IPC Medium Density)
footprint LT-S8-8_L (SOIC, 8-Leads, Body 5x4mm, Pitch 1.27mm, IPC High Density)
footprint LT-S8-8_M (SOIC, 8-Leads, Body 5x4mm, Pitch 1.27mm, IPC Low Density)
pins: 1 ~{SHDN} (in) "Shutdown (TTL Compatible). This pin is active low (S\H\D\N\) for the LTC1550L and active high (SHDN) for the LTC1551L. When this pin is at VCC (GND for LTC1551L), the LTC1550L operates normally. When S\H\D\N\ is pulled low (See Datasheet)", 2 VCC (power) "Power Supply. VCC requires an input voltage between 2.7V and 5.25V. Certain combinations of output voltage and output load current may place additional restrictions on the required input voltage. Consult the Electrical (See Datasheet)", 3 C1+ "C1 Positive Input. Connect a 0.1uF capacitor between C1+ and C1-.", 4 VOUT (power) "Negative Voltage Output. This pin must be bypassed with a 4.7uF or larger capacitor to ensure regulator loop stability. LTC recommends at least 10uFto achieve the specified output ripple. The output capacitor should be a (See Datasheet)", 5 C1- "C1 Negative Input. Connect a 0.1uF capacitor from C1+ to C1-.", 6 GND (power) "Ground. Connect to a low impedance ground. A ground plane will help minimize regulation errors.", 7 CPOUT "Negative Charge Pump Output. This pin requires a 0.1uF storage capacitor to ground. In order to achieve ripple on the output voltage of less than 1mV, the ground connection for the CPOUT capacitor must tie directly to the (See Datasheet)", 8 REG (oc) "This is an open-drain output that pulls low when the output voltage is within 5% of the set value. It will sink 4uA to ground with a 5V supply. The external circuitry must provide a pull-up or REG will not swing high. The (See Datasheet)"